# Altium integrated library CR0402-FX-1002GLF.IntLib: 1 symbol
Pins are listed as number, name and electrical type; pins without a type are passive.

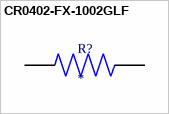
[diagram p0: symbol CR0402-FX-1002GLF]

## CR0402-FX-1002GLF
designator R?
Res Thick Film 0402 10K Ohm 1% 1/16W Â±100ppm/Â°C Molded SMD SMD Paper Tape on Plastic Reel; MP: CR0402-FX-1002GLF; Package: None; Price: None; Value: *; Availability: Unavailable
footprint RESC1005X40N
pins: 1, 2